# EAGLE library part ESIM (library Particle)
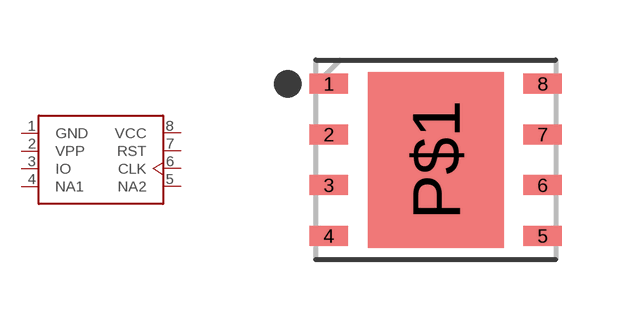
[diagram p30: symbol with the pads of MFF2; footprint MFF2]

Designator prefix -

## ESIMSON8  [MFF2]
1  GND  pwr
2  VPP  pwr
3  IO
4  NA1
5  NA2
6  CLK
7  RST
8  VCC  pwr

## Footprint MFF2 (pad centres in mm)
smd 0.96 x 0.5: 1 -2.675,1.905; 2 -2.675,0.635; 3 -2.675,-0.635; 4 -2.675,-1.905; 5 2.675,-1.905; 6 2.675,-0.635; 7 2.675,0.635; 8 2.675,1.905
smd 3.4 x 4.4: P$1 0,0